# Altium schematic symbol library ourlibs.SchLib: 8 symbols
Pins are listed as number, name and electrical type; pins without a type are passive.

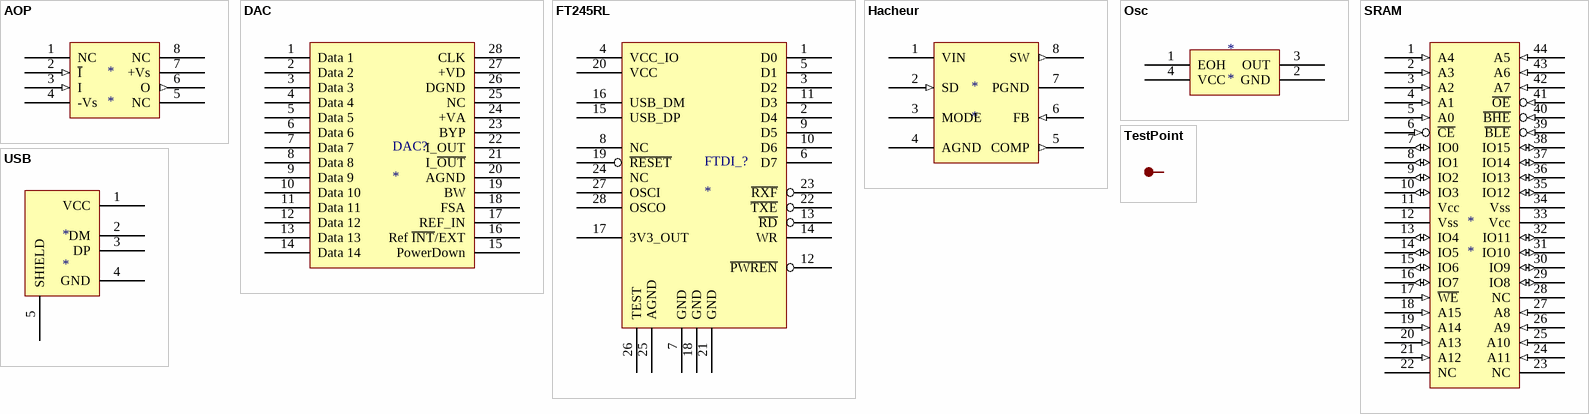
[diagram p0: symbols AOP to USB]

## AOP
designator *
footprint SOIC127P600-8CN (SOIC, 8-Leads, Body 4.9x3.9mm, Pitch 1.27mm, IPC Medium Density)
pins: 1 NC, 2 ~{I} (in), 3 I (in), 4 -Vs (power), 5 NC, 6 O (out), 7 +Vs (power), 8 NC

## DAC
designator DAC?
pins: 1 Data 1, 2 Data 2, 3 Data 3, 4 Data 4, 5 Data 5, 6 Data 6, 7 Data 7, 8 Data 8, 9 Data 9, 10 Data 10, 11 Data 11, 12 Data 12, 13 Data 13, 14 Data 14, 15 PowerDown, 16 Ref ~{INT}/EXT, 17 REF_IN, 18 FSA, 19 BW, 20 AGND, 21 I_~{OUT}, 22 I_OUT, 23 BYP, 24 +VA, 25 NC, 26 DGND, 27 +VD, 28 CLK

## FT245RL
designator FTDI_?
footprint SOP65P760-28M (SOP, 28-Leads, Body 10.2x5.3mm, Pitch 0.65mm, IPC Low Density)
pins: 1 D0, 2 D4, 3 D2, 4 VCC_IO, 5 D1, 6 D7, 7 GND, 8 NC, 9 D5, 10 D6, 11 D3, 12 ~{PWREN}, 13 ~{RD}, 14 WR, 15 USB_DP, 16 USB_DM, 17 3V3_OUT, 18 GND, 19 ~{RESET}, 20 VCC, 21 GND, 22 ~{TXE}, 23 ~{RXF}, 24 NC, 25 AGND, 26 TEST, 27 OSCI, 28 OSCO

## Hacheur
designator *
footprint SOIC127P600-8BM (SOIC, 8-Leads, Body 4.9x3.9mm, Pitch 1.27mm, IPC Low Density)
pins: 1 VIN (power), 2 SD (in), 3 MODE, 4 AGND (power), 5 COMP (out), 6 FB (in), 7 PGND (power), 8 SW (out)

## Osc
designator *
pins: 1 EOH, 2 GND, 3 OUT, 4 VCC

## SRAM
designator *
pins: 1 A4 (in), 2 A3 (in), 3 A2 (in), 4 A1 (in), 5 A0 (in), 6 ~{CE} (in), 7 IO0 (io), 8 IO1 (io), 9 IO2 (io), 10 IO3 (io), 11 Vcc (power), 12 Vss (power), 13 IO4 (io), 14 IO5 (io), 15 IO6 (io), 16 IO7 (io), 17 ~{WE} (in), 18 A15 (in), 19 A14 (in), 20 A13 (in), 21 A12 (in), 22 NC, 23 NC, 24 A11 (in), 25 A10 (in), 26 A9 (in), 27 A8 (in), 28 NC, 29 IO8 (io), 30 IO9 (io), 31 IO10 (io), 32 IO11 (io), 33 Vcc (power), 34 Vss (power), 35 IO12 (io), 36 IO13 (io), 37 IO14 (io), 38 IO15 (io), 39 ~{BLE} (in), 40 ~{BHE} (in), 41 ~{OE} (in), 42 A7 (in), 43 A6 (in), 44 A5 (in)

## TestPoint
designator TP?  (value not drawn)
pins: 1 TP

## USB
designator *
pins: 1 VCC, 2 DM, 3 DP, 4 GND, 5 SHIELD